# Altium integrated library altera-stratix-iv.IntLib: 38 symbols (part 6 of 21)
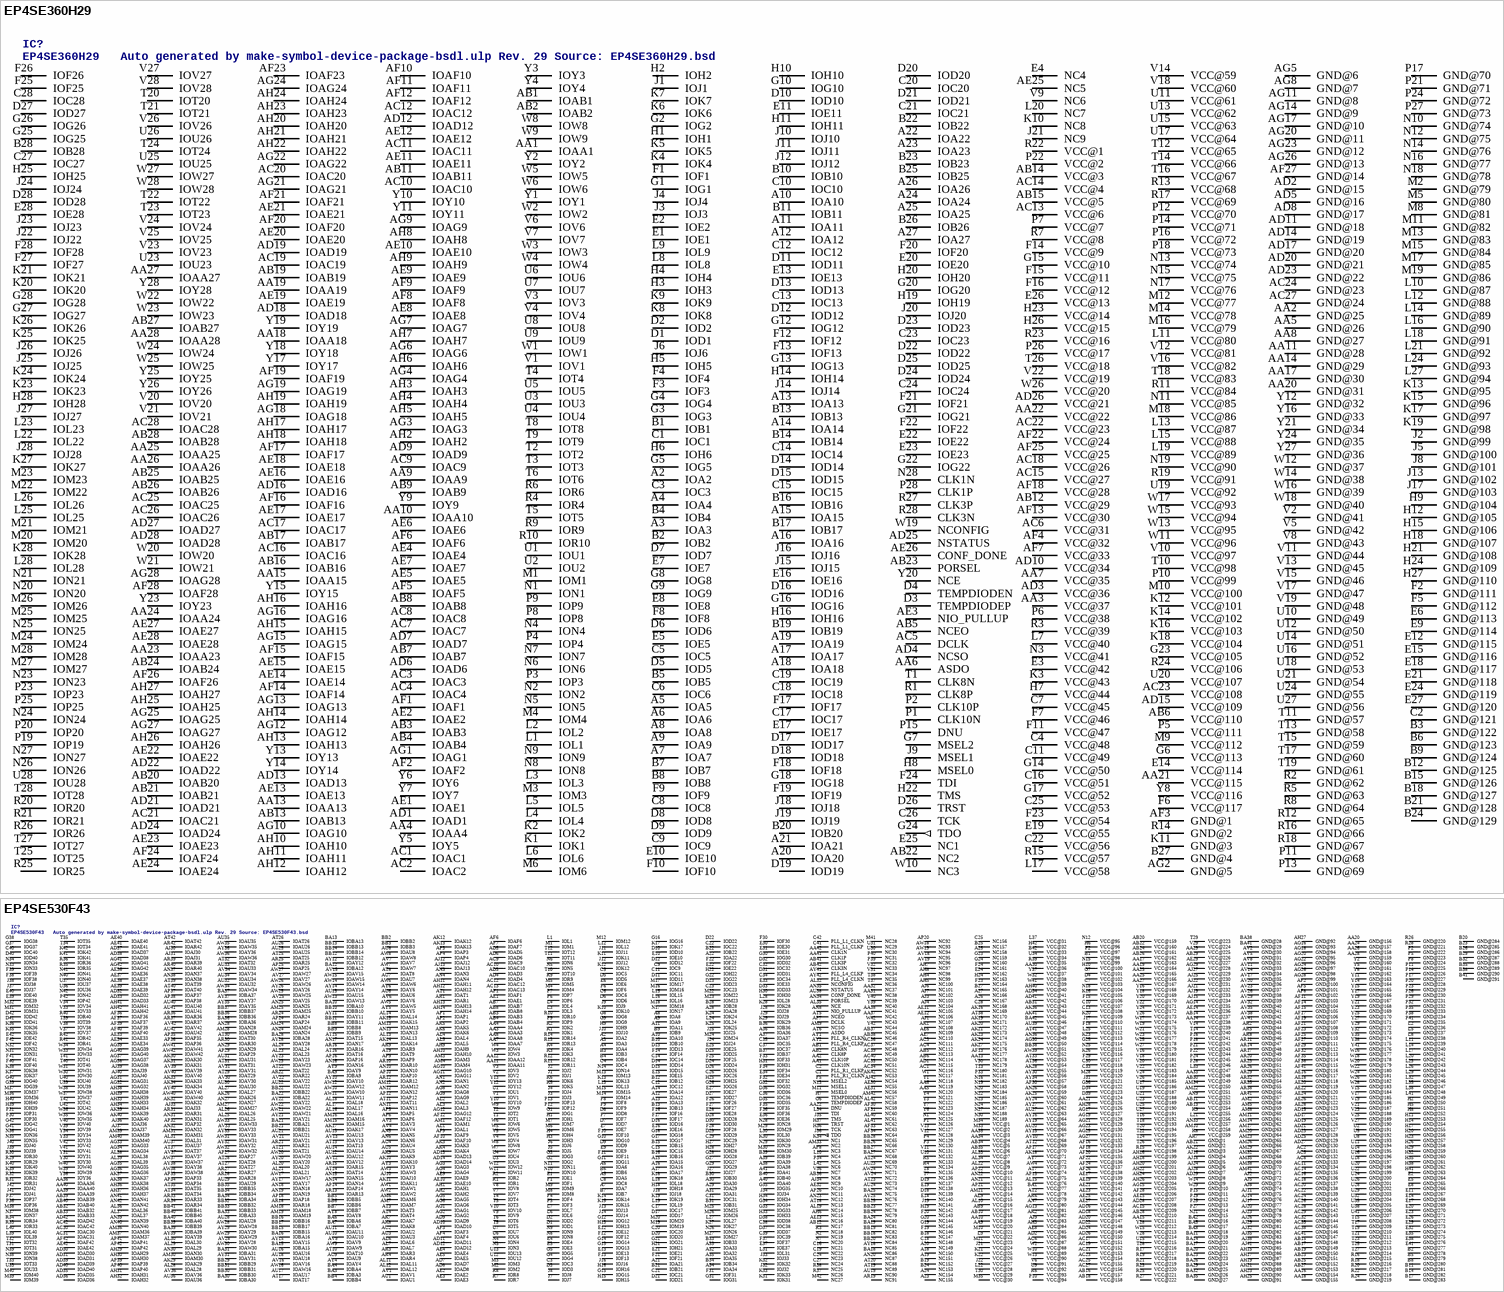
[diagram p21: symbols EP4SE360H29 to EP4SE530F43]

## EP4SE530F43
designator IC?, comment EP4SE530F43   Auto generated by make-symbol-device-package-bsdl.ulp Rev. 29 Source: EP4SE530F43.bsd
MPN: EP4SE530F43C2; OC_FARNELL: unknown; OC_NEWARK: 52R1701
footprint FBGA1760
pins: A2 IOA2, A3 IOA3, A4 IOA4, A5 IOA5, A6 IOA6, A7 IOA7, A8 IOA8, A9 IOA9, A10 IOA10, A11 IOA11, A12 IOA12, A13 IOA13, A14 IOA14, A15 IOA15, A16 IOA16, A17 IOA17, A18 NC150, A19 NC151, A20 NC149, A21 IOA21, A22 IOA22, A23 NC155, A24 NC154, A25 NC158, A26 NC167, A27 NC166, A28 IOA28, A29 IOA29, A30 IOA30, A31 IOA31, A32 IOA32, A33 IOA33, A34 IOA34, A35 IOA35, A36 IOA36, A37 IOA37, A38 IOA38, A39 IOA39, A40 IOA40, A41 IOA41, AA1 CLK10N, AA2 CLK10P, AA3 IOAA3, AA4 IOAA4, AA5 NC120, AA6 NC119, AA7 IOAA7, AA8 IOAA8, AA9 VCC@20 (power), AA10 VCC@19 (power), AA11 IOAA11, AA12 IOAA12, AA13 NC178, AA14 VCC@238 (power), AA15 VCC@211 (power), AA16 GND@154 (power), AA17 VCC@163 (power), AA18 GND@155 (power), AA19 VCC@164 (power), AA20 GND@156 (power), AA21 VCC@125 (power), AA22 DNU, AA23 VCC@165 (power), AA24 GND@157 (power), AA25 VCC@166 (power), AA26 GND@158 (power), AA27 VCC@167 (power), AA28 GND@159 (power), AA29 VCC@225 (power), AA30 VCC@36 (power), AA31 NC38, AA32 NC37, AA33 VCC@248 (power), AA34 VCC@4 (power), AA35 VCC@3 (power), AA36 IOAA36, AA37 NC42, AA38 NC41, AA39 IOAA39, AA40 IOAA40, AA41 CLK1P, AA42 CLK1N, AB1 CLK8N, AB2 CLK8P, AB3 IOAB3, AB4 IOAB4, AB5 NC113, AB6 NC114, AB7 IOAB7, AB8 IOAB8, AB9 VCC@17 (power), AB10 VCC@18 (power), AB11 VCC@253 (power), AB12 NC17, AB13 VCC@254 (power), AB14 VCC@237 (power), AB15 GND@148 (power), AB16 VCC@157 (power), AB17 GND@149 (power), AB18 VCC@158 (power), AB19 GND@150 (power), AB20 VCC@159 (power), AB21 GND@2 (power), AB22 VCC@160 (power), AB23 GND@151 (power), AB24 VCC@161 (power), AB25 GND@152 (power), AB26 VCC@162 (power), AB27 GND@153 (power), AB28 VCC@210 (power), AB29 VCC@226 (power), AB30 VCC@249 (power), AB31 VCC@43 (power), AB32 IOAB32, AB33 IOAB33, AB34 VCC@5 (power), AB35 VCC@6 (power), AB36 NC8, AB37 NC45, AB38 NC46, AB39 IOAB39, AB40 IOAB40, AB41 CLK3P, AB42 CLK3N, AC1 NC116, AC2 GND@131 (power), AC3 NC111, AC4 NC112, AC5 GND@132 (power), AC6 VCC@87 (power), AC8 GND@133 (power), AC9 IOAC9, AC10 IOAC10, AC11 GND@134 (power), AC12 IOAC12, AC13 IOAC13, AC14 GND@135 (power), AC15 VCC@209 (power), AC16 GND@136 (power), AC17 VCC@151 (power), AC18 GND@137 (power), AC19 VCC@152 (power), AC20 GND@138 (power), AC21 VCC@153 (power), AC22 GND@139 (power), AC23 VCC@154 (power), AC24 GND@140 (power), AC25 VCC@155 (power), AC26 GND@141 (power), AC27 VCC@156 (power), AC28 GND@142 (power), AC29 GND@143 (power), AC30 IOAC30, AC31 IOAC31, AC32 GND@144 (power), AC33 NC51, AC34 NC52, AC35 GND@145 (power), AC36 NC47, AC37 NC48, AC38 GND@146 (power), AC39 NC49, AC40 NC50, AC41 GND@147 (power), AC42 IOAC42, AD1 NC115, AD2 VCC@86 (power), AD3 IOAD3, AD4 IOAD4, AD5 IOAD5, AD6 IOAD6, AD7 IOAD7, AD8 IOAD8, AD9 IOAD9, AD10 IOAD10, AD11 IOAD11, AD12 IOAD12, AD13 IOAD13, AD14 IOAD14, AD15 GND@124 (power), AD16 VCC@145 (power), AD17 GND@125 (power), AD18 VCC@146 (power), AD19 GND@126 (power), AD20 VCC@147 (power), AD21 GND@127 (power), AD22 VCC@148 (power), AD23 GND@128 (power), AD24 VCC@149 (power), AD25 GND@129 (power), AD26 VCC@150 (power), AD27 GND@130 (power), AD28 VCC@208 (power), AD29 GND@8 (power), AD30 IOAD30, AD31 IOAD31, AD32 IOAD32, AD33 IOAD33, AD34 VCC@41 (power), AD35 IOAD35, AD36 IOAD36, AD37 IOAD37, AD38 IOAD38, AD39 IOAD39, AD40 IOAD40, AD41 VCC@42 (power), AD42 IOAD42, AE1 IOAE1, AE2 IOAE2, AE3 IOAE3, AE4 IOAE4, AE5 IOAE5, AE6 NC109, AE7 NC110, AE8 VCC@85 (power), AE9 IOAE9, AE10 IOAE10, AE11 NC105, AE12 NC106, AE13 NC16, AE14 VCC@236 (power), AE15 VCC@207 (power), AE16 GND@117 (power), AE17 VCC@139 (power), AE18 GND@118 (power), AE19 VCC@140 (power), AE20 GND@119 (power), AE21 VCC@141 (power), AE22 GND@120 (power), AE23 VCC@142 (power), AE24 GND@121 (power), AE25 VCC@143 (power), AE26 GND@122 (power), AE27 VCC@144 (power), AE28 GND@123 (power), AE29 VCC@227 (power), AE30 NC55, AE31 NC56, AE32 NC10, AE33 IOAE33, AE34 IOAE34, AE36 IOAE36, AE37 IOAE37, AE38 IOAE38, AE39 IOAE39, AE40 IOAE40, AE41 IOAE41, AE42 IOAE42, AF1 IOAF1, AF2 GND@100 (power), AF3 IOAF3, AF4 IOAF4, AF5 GND@101 (power), AF6 IOAF6, AF7 IOAF7, AF8 GND@102 (power), AF9 IOAF9, AF10 IOAF10, AF11 GND@103 (power), AF12 IOAF12, AF13 NC177, AF14 GND@104 (power), AF15 GND@105 (power), AF16 VCC@133 (power), AF17 GND@106 (power), AF18 VCC@134 (power), AF19 GND@107 (power), AF20 VCC@135 (power), AF21 GND@108 (power), AF22 VCC@136 (power), AF23 GND@109 (power), AF24 VCC@137 (power), AF25 GND@110 (power), AF26 VCC@138 (power), AF27 GND@111 (power), AF28 VCC@206 (power), AF29 GND@112 (power), AF30 NC59, AF31 NC60, AF32 GND@113 (power), AF33 NC63, AF34 NC64, AF35 GND@114 (power), AF36 IOAF36, AF37 IOAF37, AF38 GND@115 (power), AF39 IOAF39, AF40 IOAF40, AF41 GND@116 (power), AF42 IOAF42, AG1 IOAG1, AG2 IOAG2, AG3 IOAG3, AG4 IOAG4, AG5 IOAG5, AG6 IOAG6, AG8 IOAG8, AG9 IOAG9, AG10 IOAG10, AG11 IOAG11, AG12 IOAG12, AG13 VCC@81 (power), AG14 VCC@235 (power), AG15 VCC@205 (power), AG16 GND@93 (power), AG17 VCC@127 (power), AG18 GND@94 (power), AG19 VCC@128 (power), AG20 GND@95 (power), AG21 VCC@129 (power), AG22 GND@96 (power), AG23 VCC@130 (power), AG24 GND@97 (power), AG25 VCC@131 (power), AG26 GND@98 (power), AG27 VCC@132 (power), AG28 GND@99 (power), AG29 VCC@228 (power), AG30 VCC@50 (power), AG31 IOAG31, AG32 IOAG32, AG33 IOAG33, AG34 IOAG34, AG35 IOAG35, AG36 IOAG36, AG37 IOAG37, AG38 IOAG38, AG39 IOAG39, AG40 IOAG40, AG41 IOAG41, AG42 IOAG42, AH1 IOAH1, AH2 IOAH2, AH3 VCC@84 (power), AH4 NC99, AH5 NC100, AH6 NC15, AH7 NC97, AH8 NC98, AH9 IOAH9, AH10 IOAH10, AH11 IOAH11, AH12 IOAH12, AH13 IOAH13, AH14 IOAH14, AH15 GND@86 (power), AH16 VCC@199 (power), AH17 GND@87 (power), AH18 VCC@200 (power), AH19 GND@88 (power), AH20 VCC@201 (power), AH21 GND@89 (power), AH22 VCC@202 (power), AH23 GND@90 (power), AH24 VCC@203 (power), AH25 GND@91 (power), AH26 VCC@204 (power), AH27 GND@92 (power), AH28 VCC@126 (power), AH29 IOAH29, AH30 IOAH30, AH31 IOAH31, AH32 IOAH32, AH33 IOAH33, AH34 IOAH34, AH36 IOAH36, AH37 IOAH37, AH38 IOAH38, AH39 IOAH39, AH40 VCC@40 (power), AH41 IOAH41, AH42 IOAH42, AJ1 NC107, AJ2 GND@72 (power), AJ3 NC103, AJ4 NC104, AJ5 GND@73 (power), AJ6 NC101, AJ7 NC102, AJ8 GND@74 (power), AJ9 VCC@83 (power), AJ10 IOAJ10, AJ11 GND@75 (power), AJ12 IOAJ12, AJ13 IOAJ13, AJ14 GND@76 (power), AJ15 VCC@234 (power), AJ16 GND@4 (power), AJ17 GND@77 (power), AJ18 GND@5 (power), AJ19 VCC@233 (power), AJ20 GND@78 (power), AJ21 VCC@232 (power), AJ22 VCC@231 (power), AJ23 GND@79 (power), AJ24 GND@6 (power), AJ25 VCC@230 (power), AJ26 GND@80 (power), AJ27 VCC@229 (power), AJ28 GND@7 (power), AJ29 GND@81 (power), AJ30 IOAJ30, AJ31 IOAJ31, AJ32 GND@82 (power), AJ33 IOAJ33, AJ34 NC9, AJ35 GND@83 (power), AJ36 IOAJ36, AJ37 IOAJ37, AJ38 GND@84 (power), AJ39 IOAJ39, AJ40 IOAJ40, AJ41 GND@85 (power), AJ42 NC54, AK1 NC108, AK2 VCC@82 (power), AK3 IOAK3, AK4 IOAK4, AK5 IOAK5, AK6 IOAK6, AK7 IOAK7, AK8 IOAK8, AK9 IOAK9, AK10 IOAK10, AK11 IOAK11, AK12 IOAK12, AK13 IOAK13, AK14 IOAK14, AK15 IOAK15, AK16 NC169, AK17 IOAK17, AK18 VCC@71 (power), AK19 NC171, AK20 NC172, AK21 NC173, AK22 GND@3 (power), AK23 NC174, AK24 NC175, AK25 VCC@60 (power), AK26 IOAK26, AK27 NC176, AK28 VCC@55 (power), AK29 IOAK29, AK30 IOAK30, AK31 IOAK31, AK32 IOAK32, AK33 IOAK33, AK34 IOAK34, AK36 VCC@44 (power), AK37 IOAK37, AK38 IOAK38, AK39 IOAK39, AK40 IOAK40, AK41 VCC@45 (power), AK42 NC53, AL1 IOAL1, AL2 IOAL2, AL3 IOAL3, AL4 IOAL4, AL5 IOAL5, AL6 IOAL6, AL7 IOAL7, AL9 VCC@15 (power), AL10 VCC@16 (power), AL11 IOAL11, AL12 IOAL12, AL13 IOAL13, AL14 IOAL14, AL15 VCC@76 (power), AL16 IOAL16, AL17 IOAL17, AL18 IOAL18, AL19 NC14, AL20 IOAL20, AL21 IOAL21, AL22 VCC@9 (power), AL23 IOAL23, AL24 IOAL24, AL25 IOAL25, AL26 IOAL26, AL27 IOAL27, AL28 IOAL28, AL29 IOAL29, AL30 IOAL30, AL31 IOAL31, AL32 NCONFIG, AL33 VCC@7 (power), AL34 VCC@8 (power), AL35 NCE, AL36 IOAL36, AL37 IOAL37, AL38 IOAL38, AL39 IOAL39, AL40 NC61, AL41 NC62, AL42 NC58, AM1 IOAM1, AM2 GND@58 (power), AM3 IOAM3, AM4 IOAM4, AM5 GND@59 (power), AM6 IOAM6, AM7 IOAM7, AM8 GND@60 (power), AM9 NCSO, AM10 VCC@258 (power), AM11 GND@61 (power), AM12 IOAM12, AM13 IOAM13, AM14 GND@62 (power), AM15 IOAM15, AM16 IOAM16, AM17 GND@63 (power), AM18 IOAM18, AM19 IOAM19, AM20 GND@64 (power), AM21 VCC@14 (power), AM22 VCC@251 (power), AM23 GND@65 (power), AM24 IOAM24, AM25 IOAM25, AM26 GND@66 (power), AM27 IOAM27, AM28 IOAM28, AM29 GND@67 (power), AM30 IOAM30, AM31 IOAM31, AM32 GND@68 (power), AM33 NC2, AM34 VCC@250 (power), AM35 GND@69 (power), AM36 IOAM36, AM37 IOAM37, AM38 GND@70 (power), AM39 IOAM39, AM40 IOAM40, AM41 GND@71 (power), AM42 NC57, AN1 IOAN1, AN2 IOAN2, AN3 IOAN3, AN4 IOAN4, AN5 IOAN5, AN6 IOAN6, AN7 VCC@80 (power), AN8 NIO_PULLUP, AN9 VCC@252 (power), AN10 IOAN10, AN11 IOAN11, AN12 IOAN12, AN13 IOAN13, AN14 IOAN14, AN15 IOAN15, AN16 IOAN16, AN17 IOAN17, AN18 IOAN18, AN19 IOAN19, AN20 NC87, AN21 VCC@12 (power), AN22 VCC@11 (power), AN23 NC12, AN24 IOAN24, AN25 IOAN25, AN26 VCC@59 (power), AN27 IOAN27, AN28 IOAN28, AN29 IOAN29, AN30 IOAN30, AN31 IOAN31, AN32 IOAN32, AN33 VCC@257 (power), AN34 PORSEL, AN35 NSTATUS, AN36 VCC@49 (power), AN37 IOAN37, AN38 IOAN38, AN39 IOAN39, AN40 IOAN40, AN41 IOAN41, AN42 IOAN42, AP1 IOAP1, AP2 IOAP2, AP3 IOAP3, AP4 IOAP4, AP5 IOAP5, AP6 IOAP6, AP7 DCLK, AP8 NC3, AP9 IOAP9, AP10 IOAP10, AP12 IOAP12, AP13 VCC@75 (power), AP14 IOAP14, AP16 IOAP16, AP17 VCC@70 (power), AP18 IOAP18, AP20 NC92, AP21 VCC@13 (power), AP22 VCC@10 (power), AP24 IOAP24, AP25 IOAP25, AP26 NC11, AP27 IOAP27, AP29 IOAP29, AP30 VCC@58 (power), AP32 IOAP32, AP33 IOAP33, AP34 IOAP34, AP35 IOAP35, AP36 IOAP36, AP37 IOAP37, AP38 IOAP38, AP39 IOAP39, AP40 IOAP40, AP41 IOAP41, AP42 IOAP42, AR1 IOAR1, AR2 GND@44 (power), AR3 IOAR3, AR4 IOAR4, AR5 GND@45 (power), AR6 VCC@79 (power), AR7 GND@1 (power), AR8 GND@46 (power), AR9 IOAR9, AR10 IOAR10, AR11 GND@47 (power), AR12 IOAR12, AR13 IOAR13, AR14 GND@48 (power), AR15 IOAR15, AR16 IOAR16, AR17 GND@49 (power), AR18 IOAR18, AR19 NC91, AR20 GND@50 (power), AR21 IOAR21, AR22 IOAR22, AR23 GND@51 (power), AR24 IOAR24, AR25 IOAR25, AR26 GND@52 (power), AR27 IOAR27, AR28 IOAR28, AR29 GND@53 (power), AR30 IOAR30, AR31 IOAR31, AR32 GND@54 (power), AR33 IOAR33, AR34 IOAR34, AR35 GND@55 (power), AR36 IOAR36, AR37 IOAR37, AR38 GND@56 (power), AR39 IOAR39, AR40 IOAR40, AR41 GND@57 (power), AR42 IOAR42, AT1 IOAT1, AT2 VCC@78 (power), AT3 IOAT3, AT4 IOAT4, AT5 NCEO, AT6 ASDO, AT7 VCC@74 (power), AT8 IOAT8, AT9 IOAT9, AT10 IOAT10, AT11 IOAT11, AT12 VCC@69 (power), AT13 IOAT13, AT14 IOAT14, AT15 IOAT15, AT16 IOAT16, AT17 IOAT17, AT18 NC13, AT19 NC89, AT20 NC88, AT21 IOAT21, AT22 IOAT22, AT23 NC73, AT24 NC69, AT25 IOAT25, AT26 IOAT26, AT27 IOAT27, AT28 IOAT28, AT29 IOAT29, AT30 IOAT30, AT31 IOAT31, AT32 IOAT32, AT33 VCC@53 (power), AT34 IOAT34, AT35 IOAT35, AT36 VCC@54 (power), AT37 IOAT37, AT38 NC170, AT39 IOAT39, AT40 IOAT40, AT41 VCC@48 (power), AT42 IOAT42, AU1 IOAU1, AU2 IOAU2, AU3 IOAU3, AU4 IOAU4, AU5 IOAU5, AU6 IOAU6, AU7 IOAU7, AU8 IOAU8, AU9 IOAU9, AU10 IOAU10, AU11 IOAU11, AU12 IOAU12, AU13 IOAU13, AU14 IOAU14, AU15 IOAU15, AU16 IOAU16, AU17 IOAU17, AU18 IOAU18, AU19 NC90, AU20 VCC@66 (power), AU21 IOAU21, AU22 IOAU22, AU23 NC70, AU24 NC74, AU25 IOAU25, AU26 IOAU26, AU27 VCC@63 (power), AU28 IOAU28, AU29 IOAU29, AU30 IOAU30, AU31 IOAU31, AU32 IOAU32, AU33 IOAU33, AU34 IOAU34, AU35 IOAU35, AU36 IOAU36, AU37 IOAU37, AU38 CONF_DONE, AU39 VCC@47 (power), AU40 IOAU40, AU41 IOAU41, AU42 IOAU42, AV1 IOAV1, AV2 GND@30 (power), AV3 IOAV3, AV4 IOAV4, AV5 GND@31 (power), AV6 IOAV6, AV7 IOAV7, AV8 GND@32 (power), AV9 IOAV9, AV10 VCC@68 (power), AV11 GND@33 (power), AV12 IOAV12, AV13 IOAV13, AV14 GND@34 (power), AV15 IOAV15, AV16 IOAV16, AV17 GND@35 (power), AV18 NC95, AV19 NC96, AV20 GND@36 (power), AV21 IOAV21, AV22 IOAV22, AV23 GND@37 (power), AV24 NC72, AV25 IOAV25, AV26 GND@38 (power), AV27 IOAV27, AV28 IOAV28, AV29 GND@39 (power), AV30 IOAV30, AV31 IOAV31, AV32 GND@40 (power), AV33 IOAV33, AV34 IOAV34, AV35 GND@41 (power), AV36 IOAV36, AV37 IOAV37, AV38 GND@42 (power), AV39 IOAV39, AV40 IOAV40, AV41 GND@43 (power), AV42 IOAV42, AW1 IOAW1, AW2 IOAW2, AW3 IOAW3, AW4 VCC@73 (power), AW5 IOAW5, AW6 IOAW6, AW7 IOAW7, AW8 IOAW8, AW9 IOAW9, AW10 IOAW10, AW11 IOAW11, AW12 IOAW12, AW13 IOAW13, AW14 IOAW14, AW15 IOAW15, AW16 IOAW16, AW17 IOAW17, AW18 NC93, AW19 NC94, AW20 IOAW20, AW21 IOAW21, AW22 IOAW22, AW23 IOAW23, AW24 NC71, AW25 IOAW25, AW26 IOAW26, AW27 IOAW27, AW28 IOAW28, AW29 IOAW29, AW30 IOAW30, AW31 IOAW31, AW32 IOAW32, AW33 IOAW33, AW34 IOAW34, AW35 IOAW35, AW36 IOAW36, AW37 IOAW37, AW38 IOAW38, AW39 VCC@52 (power), AW40 IOAW40, AW41 IOAW41, AW42 IOAW42, AY1 PLL_R4_CLKN, AY2 PLL_R4_CLKP, AY3 IOAY3, AY4 IOAY4, AY5 IOAY5, AY6 IOAY6, AY7 VCC@72 (power), AY8 IOAY8, AY9 IOAY9, AY10 IOAY10, AY11 IOAY11, AY12 IOAY12, AY13 VCC@67 (power), AY14 IOAY14, AY15 IOAY15, AY16 VCC@64 (power), AY17 IOAY17, AY18 NC85, AY19 VCC@65 (power), AY20 IOAY20, AY21 IOAY21, AY22 IOAY22, AY23 IOAY23, AY24 VCC@61 (power), AY25 NC76, AY26 IOAY26, AY27 VCC@62 (power), AY28 IOAY28, AY29 IOAY29, AY30 VCC@56 (power), AY31 IOAY31, AY32 IOAY32, AY33 IOAY33, AY34 VCC@57 (power), AY35 IOAY35, AY36 IOAY36, AY37 IOAY37, AY38 IOAY38, AY39 IOAY39, AY40 IOAY40, AY41 PLL_L4_CLKP, AY42 PLL_L4_CLKN, B1 VCC@98 (power), B2 GND@278 (power), B3 IOB3, B4 IOB4, B5 GND@279 (power), B6 IOB6, B7 IOB7, B8 GND@280 (power), B9 IOB9, B10 IOB10, B11 GND@281 (power), B12 IOB12, B13 IOB13, B14 GND@282 (power), B15 IOB15, B16 IOB16, B17 GND@283 (power), B18 NC147, B19 NC152, B20 GND@284 (power), B21 IOB21, B22 IOB22, B23 GND@285 (power), B24 NC153, B25 NC157, B26 GND@286 (power), B27 NC165, B28 IOB28, B29 GND@287 (power), B30 IOB30, B31 IOB31, B32 GND@288 (power), B33 IOB33, B34 IOB34, B35 GND@289 (power), B36 IOB36, B37 IOB37, B38 GND@290 (power), B39 IOB39, B40 IOB40, B41 GND@291 (power), B42 VCC@33 (power), BA1 VCC@77 (power), BA2 GND@16 (power), BA3 IOBA3, BA4 IOBA4, BA5 GND@17 (power), BA6 IOBA6, BA7 IOBA7, BA8 GND@18 (power), BA9 IOBA9, BA10 IOBA10, BA11 GND@19 (power), BA12 IOBA12, BA13 IOBA13, BA14 GND@20 (power), BA15 IOBA15, BA16 IOBA16, BA17 GND@21 (power), BA18 NC86, BA19 NC81, BA20 GND@22 (power), BA21 IOBA21, BA22 IOBA22, BA23 GND@23 (power), BA24 NC80, BA25 NC75, BA26 GND@24 (power), BA27 NC68, BA28 IOBA28, BA29 GND@25 (power), BA30 IOBA30, BA31 IOBA31, BA32 GND@26 (power), BA33 IOBA33, BA34 IOBA34, BA35 GND@27 (power), BA36 IOBA36, BA37 IOBA37, BA38 GND@28 (power), BA39 IOBA39, BA40 IOBA40, BA41 GND@29 (power), BA42 VCC@46 (power), BB2 IOBB2, BB3 IOBB3, BB4 IOBB4, BB5 IOBB5, BB6 IOBB6, BB7 IOBB7, BB8 IOBB8, BB9 IOBB9, BB10 IOBB10, BB11 IOBB11, BB12 IOBB12, BB13 IOBB13, BB14 IOBB14, BB15 IOBB15, BB16 IOBB16, BB17 IOBB17, BB18 NC83, BB19 NC82, BB20 NC84, BB21 IOBB21, BB22 IOBB22, BB23 NC78, BB24 NC79, BB25 NC77, BB26 NC66, BB27 NC67, BB28 NC65, BB29 IOBB29, BB30 IOBB30, BB31 IOBB31, BB32 IOBB32, BB33 IOBB33, BB34 IOBB34, BB35 IOBB35, BB36 IOBB36, BB37 IOBB37, BB38 VCC@51 (power), BB39 IOBB39, BB40 IOBB40, BB41 IOBB41, C1 PLL_R1_CLKN, C2 PLL_R1_CLKP, C3 IOC3, C4 IOC4, C5 IOC5, C6 IOC6, C7 VCC@103 (power), C8 IOC8, C9 IOC9, C10 VCC@107 (power), C11 IOC11, C12 IOC12, C13 VCC@108 (power), C14 IOC14, C15 IOC15, C16 NC21, C17 IOC17, C18 NC148, C19 NC22, C20 IOC20, C21 IOC21, C22 IOC22, C23 IOC23, C24 NC23, C25 NC156, C26 IOC26, C27 NC24, C28 NC168, C29 IOC29, C30 VCC@118 (power), C31 IOC31, C32 IOC32, C33 VCC@119 (power), C34 IOC34, C35 IOC35, C36 IOC36, C37 IOC37, C38 IOC38, C39 IOC39, C40 IOC40, C41 PLL_L1_CLKP, C42 PLL_L1_CLKN, D1 IOD1, D2 IOD2, D3 IOD3, D4 VCC@102 (power), D5 IOD5, D6 IOD6, D7 IOD7, D8 IOD8, D9 IOD9, D10 IOD10, D11 IOD11, D12 IOD12, D13 IOD13, D14 IOD14, D15 IOD15, D16 IOD16, D17 IOD17, D18 NC139, D19 NC137, D20 IOD20, D21 IOD21, D22 IOD22, D23 IOD23, D24 IOD24, D25 IOD25, D26 IOD26, D27 IOD27, D28 IOD28, D29 IOD29, D30 IOD30, D31 IOD31, D32 IOD32, D33 IOD33, D34 VCC@123 (power), D35 IOD35, D36 IOD36, D37 IOD37, D38 IOD38, D39 VCC@124 (power), D40 IOD40, D41 IOD41, D42 IOD42, E1 IOE1, E2 GND@264 (power), E3 IOE3, E4 IOE4, E5 GND@265 (power), E6 IOE6, E7 IOE7, E8 GND@266 (power), E9 IOE9, E10 IOE10, E11 GND@267 (power), E12 IOE12, E13 IOE13, E14 GND@268 (power), E15 IOE15, E16 IOE16, E17 GND@269 (power), E18 NC140, E19 NC138, E20 GND@270 (power), E21 IOE21, E22 IOE22, E23 GND@271 (power), E24 NC162, E25 IOE25, E26 GND@272 (power), E27 IOE27, E28 IOE28, E29 GND@273 (power), E30 IOE30, E31 IOE31, E32 GND@274 (power), E33 IOE33, E34 IOE34, E35 GND@275 (power), E36 IOE36, E37 IOE37, E38 GND@276 (power), E39 IOE39, E40 IOE40, E41 GND@277 (power), E42 IOE42, F1 IOF1, F2 VCC@97 (power), F3 IOF3, F4 IOF4, F5 MSEL2, F6 IOF6, F7 IOF7, F8 IOF8, F9 IOF9, F10 IOF10, F11 IOF11, F12 IOF12, F13 IOF13, F14 IOF14, F15 VCC@106 (power), F16 IOF16, F17 IOF17, F18 VCC@111 (power), F19 NC146, F20 NC143, F21 IOF21, F22 IOF22, F23 NC164, F24 NC161, F25 IOF25, F26 IOF26, F27 IOF27, F28 IOF28, F29 VCC@117 (power), F30 IOF30, F31 IOF31, F32 IOF32, F33 IOF33, F34 IOF34, F35 IOF35, F36 IOF36, F37 IOF37, F38 IOF38, F39 IOF39, F40 IOF40, F41 IOF41, F42 IOF42, G1 IOG1, G2 IOG2, G3 IOG3, G4 IOG4, G5 IOG5, G6 TEMPDIODEP, G7 VCC@101 (power), G8 IOG8, G9 IOG9, G10 IOG10, G11 IOG11, G12 IOG12, G13 IOG13, G14 IOG14, G15 IOG15, G16 IOG16, G17 IOG17, G18 IOG18, G19 NC145, G20 NC144, G21 IOG21, G22 IOG22, G23 NC159, G24 NC160, G25 VCC@114 (power), G26 IOG26, G27 IOG27, G28 IOG28, G29 IOG29, G30 IOG30, G31 IOG31, G32 IOG32, G33 IOG33, G34 IOG34, G35 IOG35, G36 VCC@122 (power), G37 IOG37, G38 IOG38, G39 IOG39, G40 IOG40, G41 IOG41, G42 IOG42, H1 IOH1, H2 GND@250 (power), H3 IOH3, H4 IOH4, H5 GND@251 (power), H6 VCC@96 (power), H7 TEMPDIODEN, H8 GND@252 (power), H9 IOH9, H10 VCC@100 (power), H11 GND@253 (power), H13 IOH13, H14 GND@254 (power), H15 IOH15, H16 IOH16, H17 GND@255 (power), H18 IOH18, H19 NC142, H20 GND@256 (power), H21 IOH21, H22 IOH22, H23 GND@257 (power), H24 NC163, H25 IOH25, H26 GND@258 (power), H27 IOH27, H28 IOH28, H29 GND@259 (power), H30 IOH30, H31 IOH31, H32 GND@260 (power), H33 IOH33, H34 IOH34, H35 GND@261 (power), H36 TCK, H37 TRST, H38 GND@262 (power), H39 IOH39, H40 IOH40, H41 GND@263 (power), H42 VCC@32 (power), J1 IOJ1, J2 IOJ2, J3 IOJ3, J4 IOJ4, J5 IOJ5, J6 IOJ6, J7 IOJ7, J8 IOJ8, J9 IOJ9, J10 IOJ10, J11 IOJ11, J12 IOJ12, J13 IOJ13, J14 IOJ14, J16 IOJ16, J17 VCC@110 (power), J18 IOJ18, J19 NC141, J21 VCC@24 (power), J22 VCC@27 (power), J24 IOJ24, J25 IOJ25, J27 IOJ27, J28 IOJ28, J29 IOJ29, J31 VCC@121 (power), J32 IOJ32, J33 IOJ33, J34 IOJ34, J35 TMS, J36 TDO (out), J37 IOJ37, J38 IOJ38, J39 IOJ39, J40 IOJ40, J41 IOJ41, J42 IOJ42, K1 IOK1, K2 IOK2, K3 IOK3, K4 IOK4, K5 IOK5, K6 IOK6, K8 VCC@259 (power), K9 VCC@255 (power), K10 IOK10, K11 IOK11, K12 IOK12, K13 IOK13, K14 IOK14, K15 IOK15, K16 VCC@105 (power), K17 IOK17, K18 IOK18, K19 IOK19, K20 VCC@109 (power), K21 VCC@25 (power), K22 VCC@26 (power), K23 VCC@113 (power), K24 IOK24, K25 IOK25, K26 VCC@116 (power), K27 IOK27, K28 IOK28, K29 IOK29, K30 IOK30, K31 IOK31, K32 IOK32, K33 IOK33, K34 NC1, K35 IOK35, K36 IOK36, K37 IOK37, K38 IOK38, K39 IOK39, K40 IOK40, K41 IOK41, K42 IOK42, L1 IOL1, L2 GND@236 (power), L3 IOL3, L4 IOL4, L5 GND@237 (power), L6 IOL6, L7 IOL7, L8 GND@238 (power), L9 VCC@22 (power), L10 NC4, L11 GND@239 (power), L12 IOL12, L13 IOL13, L14 GND@240 (power), L15 IOL15, L16 IOL16, L17 GND@241 (power), L18 IOL18, L19 IOL19, L20 GND@242 (power), L21 VCC@256 (power), L22 VCC@28 (power), L23 GND@243 (power), L24 IOL24, L25 VCC@112 (power), L26 GND@244 (power), L27 IOL27, L28 IOL28, L29 GND@245 (power), L30 IOL30, L31 IOL31, L32 GND@246 (power), L33 VCC@247 (power), L34 TDI, L35 GND@247 (power), L37 VCC@31 (power), L38 GND@248 (power), L39 IOL39, L40 IOL40, L41 GND@249 (power), L42 NC6, M1 IOM1, M2 IOM2, M3 IOM3, M4 IOM4, M5 IOM5, M6 IOM6, M7 IOM7, M8 IOM8, M9 IOM9, M10 VCC@21 (power), M11 MSEL0, M12 IOM12, M13 IOM13, M14 IOM14, M15 IOM15, M16 IOM16, M17 IOM17, M18 IOM18, M19 IOM19, M20 IOM20, M21 VCC@23 (power), M22 IOM22, M23 IOM23, M24 IOM24, M25 IOM25, M26 IOM26, M27 IOM27, M28 VCC@120 (power), M29 IOM29, M30 IOM30, M31 IOM31, M32 IOM32, M33 VCC@2 (power), M34 VCC@1 (power), M35 VCC@30 (power), M36 IOM36, M37 IOM37, M38 IOM38, M39 IOM39, M40 IOM40, M41 NC28, M42 NC27, N1 NC125, N2 NC19, N3 ION3, N4 ION4, N5 ION5, N6 ION6, N7 NC20, N8 ION8, N9 ION9, N10 ION10, N11 ION11, N12 VCC@95 (power), N13 MSEL1, N14 ION14, N15 VCC@99 (power), N16 NC182, N17 ION17, N18 VCC@104 (power), N19 NC183, N20 NC184, N21 GND@15 (power), N22 NC185, N23 NC186, N24 NC187, N25 VCC@115 (power), N26 ION26, N27 NC188, N28 ION28, N29 ION29, N30 NC189, N31 ION31, N32 ION32, N33 ION33, N34 ION34, N35 ION35, N36 ION36, N37 ION37, N38 ION38, N39 ION39, N40 ION40, N41 ION41, N42 ION42, P1 NC126, P2 GND@222 (power), P3 NC130, P4 NC129, P5 GND@223 (power), P6 IOP6, P7 IOP7, P8 GND@224 (power), P9 IOP9, P10 VCC@94 (power), P11 GND@225 (power), P12 IOP12, P13 IOP13, P14 GND@226 (power), P15 GND@11 (power), P16 VCC@241 (power), P17 GND@227 (power), P18 VCC@242 (power), P19 GND@12 (power), P20 GND@228 (power), P21 VCC@243 (power), P22 VCC@244 (power), P23 GND@229 (power), P24 VCC@245 (power), P25 GND@13 (power), P26 GND@230 (power), P27 GND@14 (power), P28 VCC@246 (power), P29 GND@231 (power), P30 IOP30, P31 IOP31, P32 GND@232 (power), P33 NC181, P34 NC5, P35 GND@233 (power), P36 IOP36, P37 IOP37, P38 GND@234 (power), P39 NC32, P40 NC31, P41 GND@235 (power), P42 IOP42, R1 IOR1, R2 IOR2, R3 NC18, R4 NC134, R5 NC133, R6 VCC@93 (power), R7 IOR7, R8 IOR8, R9 IOR9, R10 IOR10, R11 IOR11, R12 IOR12, R13 IOR13, R14 IOR14, R15 VCC@198 (power), R16 GND@215 (power), R17 VCC@217 (power), R18 GND@216 (power), R19 VCC@218 (power), R20 GND@217 (power), R21 VCC@219 (power), R22 GND@218 (power), R23 VCC@220 (power), R24 GND@219 (power), R25 VCC@221 (power), R26 GND@220 (power), R27 VCC@222 (power), R28 GND@221 (power), R29 IOR29, R30 IOR30, R31 IOR31, R32 IOR32, R33 IOR33, R34 IOR34, R35 IOR35, R36 IOR36, R37 NC26, R38 NC25, R39 VCC@35 (power), R40 IOR40, R41 IOR41, R42 IOR42, T1 IOT1, T2 IOT2, T3 IOT3, T4 IOT4, T5 IOT5, T6 IOT6, T7 NC136, T8 NC135, T10 IOT10, T11 IOT11, T12 IOT12, T13 NC180, T14 VCC@240 (power), T15 GND@208 (power), T16 VCC@192 (power), T17 GND@209 (power), T18 VCC@193 (power), T19 GND@210 (power), T20 VCC@194 (power), T21 GND@211 (power), T22 VCC@195 (power), T23 GND@212 (power), T24 VCC@196 (power), T25 GND@213 (power), T26 VCC@197 (power), T27 GND@214 (power), T28 VCC@216 (power), T29 VCC@223 (power), T30 VCC@29 (power), T31 IOT31, T32 IOT32, T33 IOT33, T34 IOT34, T35 IOT35, T37 NC36, T38 NC35, T39 IOT39, T40 IOT40, T41 IOT41, T42 IOT42, U1 IOU1, U2 GND@191 (power), U3 IOU3, U4 IOU4, U5 GND@192 (power), U6 IOU6, U7 IOU7, U8 GND@193 (power), U9 VCC@92 (power), U10 NC132, U11 GND@194 (power), U12 IOU12, U13 IOU13, U14 GND@195 (power), U15 VCC@215 (power), U16 GND@196 (power), U17 VCC@186 (power), U18 GND@197 (power), U19 VCC@187 (power), U20 GND@198 (power), U21 VCC@188 (power), U22 GND@199 (power), U23 VCC@189 (power), U24 GND@200 (power), U25 VCC@190 (power), U26 GND@201 (power), U27 VCC@191 (power), U28 GND@202 (power), U29 GND@203 (power), U30 NC30, U31 NC29, U32 GND@204 (power), U33 IOU33, U34 VCC@34 (power), U35 GND@205 (power), U36 IOU36, U37 IOU37, U38 GND@206 (power), U39 IOU39, U40 IOU40, U41 GND@207 (power), U42 IOU42, V1 IOV1, V2 IOV2, V3 IOV3, V4 IOV4, V5 IOV5, V6 VCC@91 (power), V7 IOV7, V8 IOV8, V9 IOV9, V10 IOV10, V11 NC131, V12 NC128, V13 NC127, V14 VCC@239 (power), V15 GND@184 (power), V16 VCC@180 (power), V17 GND@185 (power), V18 VCC@181 (power), V19 GND@186 (power), V20 VCC@182 (power), V21 GND@187 (power), V22 VCC@183 (power), V23 GND@188 (power), V24 VCC@184 (power), V25 GND@189 (power), V26 VCC@185 (power), V27 GND@190 (power), V28 VCC@214 (power), V29 VCC@224 (power), V30 NC179, V31 NC34, V32 NC33, V33 IOV33, V34 IOV34, V36 NC7, V37 IOV37, V38 IOV38, V39 IOV39, V40 IOV40, V41 IOV41, V42 IOV42, W1 NC117, W2 VCC@88 (power), W3 IOW3, W4 IOW4, W5 IOW5, W6 IOW6, W7 IOW7, W8 IOW8, W9 IOW9, W10 VCC@89 (power), W11 IOW11, W12 IOW12, W13 VCC@90 (power), W14 GND@9 (power), W15 VCC@213 (power), W16 GND@177 (power), W17 VCC@174 (power), W18 GND@178 (power), W19 VCC@175 (power), W20 GND@179 (power), W21 VCC@176 (power), W22 GND@180 (power), W23 VCC@177 (power), W24 GND@181 (power), W25 VCC@178 (power), W26 GND@182 (power), W27 VCC@179 (power), W28 GND@183 (power), W29 GND@10 (power), W30 IOW30, W31 IOW31, W32 VCC@38 (power), W33 IOW33, W34 IOW34, W35 IOW35, W36 IOW36, W37 IOW37, W38 IOW38, W39 IOW39, W40 IOW40, W41 VCC@39 (power), W42 NC43, Y1 NC118, Y2 GND@160 (power), Y3 NC122, Y4 NC121, Y5 GND@161 (power), Y6 NC124, Y7 NC123, Y8 GND@162 (power), Y10 IOY10, Y11 GND@163 (power), Y12 IOY12, Y13 IOY13, Y14 GND@164 (power), Y15 GND@165 (power), Y16 VCC@168 (power), Y17 GND@166 (power), Y18 VCC@169 (power), Y19 GND@167 (power), Y20 VCC@170 (power), Y21 GND@168 (power), Y22 VCC@171 (power), Y23 GND@169 (power), Y24 VCC@172 (power), Y25 GND@170 (power), Y26 VCC@173 (power), Y27 GND@171 (power), Y28 VCC@212 (power), Y29 GND@172 (power), Y30 IOY30, Y31 IOY31, Y32 GND@173 (power), Y33 IOY33, Y34 IOY34, Y35 GND@174 (power), Y36 IOY36, Y37 VCC@37 (power), Y38 GND@175 (power), Y39 NC40, Y40 NC39, Y41 GND@176 (power), Y42 NC44

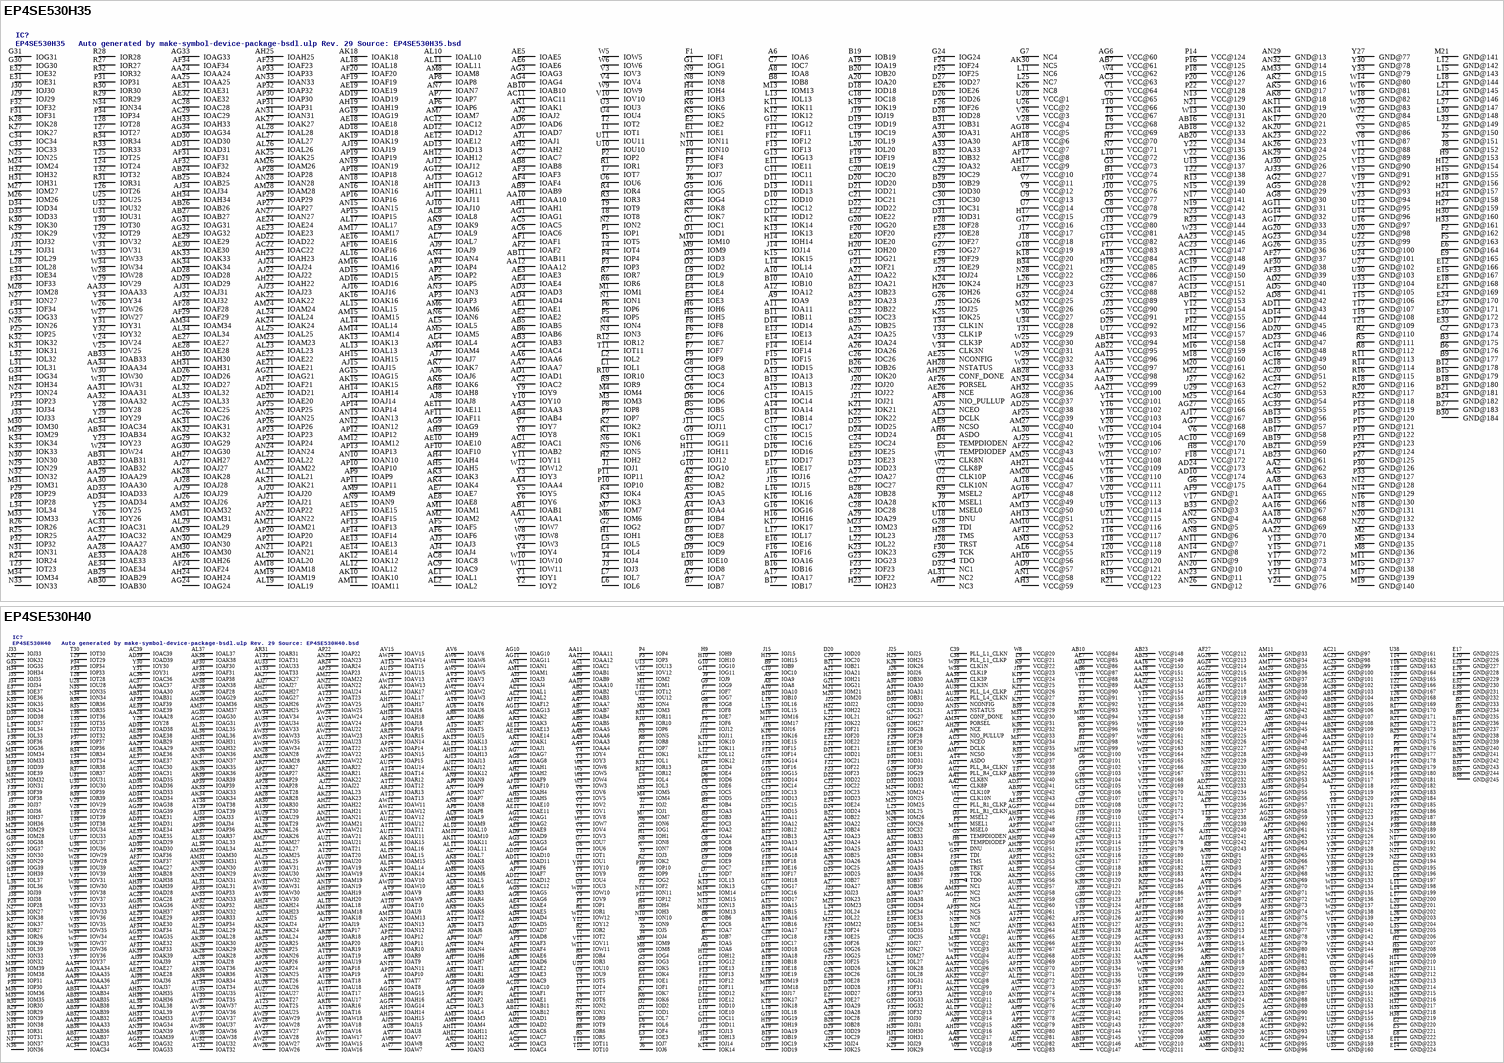
[diagram p4: symbols EP4SE530H35 to EP4SE530H40]

## EP4SE530H35
designator IC?, comment EP4SE530H35   Auto generated by make-symbol-device-package-bsdl.ulp Rev. 29 Source: EP4SE530H35.bsd
MPN: EP4SE530H35C3N; OC_FARNELL: unknown; OC_NEWARK: 52R1723
footprint FBGA1152
pins: A2 IOA2, A3 IOA3, A4 IOA4, A5 IOA5, A6 IOA6, A7 IOA7, A8 IOA8, A9 IOA9, A10 IOA10, A11 IOA11, A12 IOA12, A13 IOA13, A14 IOA14, A15 IOA15, A16 IOA16, A17 IOA17, A18 VCC@84 (power), A19 IOA19, A20 IOA20, A21 IOA21, A22 IOA22, A23 IOA23, A24 IOA24, A25 IOA25, A26 IOA26, A27 IOA27, A28 IOA28, A29 IOA29, A30 IOA30, A31 IOA31, A32 IOA32, A33 IOA33, AA1 IOAA1, AA2 GND@62 (power), AA3 IOAA3, AA4 IOAA4, AA5 GND@63 (power), AA6 IOAA6, AA7 IOAA7, AA8 GND@64 (power), AA10 IOAA10, AA11 GND@65 (power), AA12 IOAA12, AA13 VCC@96 (power), AA14 GND@66 (power), AA15 VCC@97 (power), AA16 GND@67 (power), AA17 VCC@98 (power), AA18 GND@68 (power), AA19 VCC@99 (power), AA20 GND@69 (power), AA21 VCC@100 (power), AA22 GND@70 (power), AA23 VCC@146 (power), AA24 IOAA24, AA25 IOAA25, AA27 IOAA27, AA28 IOAA28, AA29 IOAA29, AA30 IOAA30, AA31 IOAA31, AA32 IOAA32, AA33 IOAA33, AA34 IOAA34, AB1 IOAB1, AB2 IOAB2, AB3 IOAB3, AB4 IOAB4, AB5 IOAB5, AB6 IOAB6, AB7 VCC@61 (power), AB8 IOAB8, AB9 IOAB9, AB10 IOAB10, AB11 IOAB11, AB12 VCC@153 (power), AB13 GND@56 (power), AB14 VCC@94 (power), AB15 GND@57 (power), AB16 VCC@132 (power), AB17 GND@58 (power), AB18 VCC@133 (power), AB19 GND@59 (power), AB20 VCC@134 (power), AB21 GND@60 (power), AB22 VCC@95 (power), AB23 GND@61 (power), AB24 IOAB24, AB25 IOAB25, AB26 IOAB26, AB27 IOAB27, AB28 VCC@34 (power), AB29 IOAB29, AB30 IOAB30, AB31 IOAB31, AB32 IOAB32, AB33 IOAB33, AB34 IOAB34, AC1 IOAC1, AC2 IOAC2, AC3 VCC@63 (power), AC4 IOAC4, AC5 IOAC5, AC6 IOAC6, AC7 IOAC7, AC8 IOAC8, AC9 IOAC9, AC10 VCC@170 (power), AC11 IOAC11, AC12 IOAC12, AC13 VCC@152 (power), AC14 GND@48 (power), AC15 VCC@151 (power), AC16 GND@49 (power), AC17 VCC@150 (power), AC18 GND@50 (power), AC19 VCC@149 (power), AC20 GND@51 (power), AC21 VCC@148 (power), AC22 IOAC22, AC23 VCC@147 (power), AC24 GND@52 (power), AC25 IOAC25, AC26 IOAC26, AC27 GND@53 (power), AC28 IOAC28, AC29 IOAC29, AC30 GND@54 (power), AC31 IOAC31, AC32 IOAC32, AC33 GND@55 (power), AC34 IOAC34, AD1 IOAD1, AD2 GND@40 (power), AD3 IOAD3, AD4 IOAD4, AD5 GND@41 (power), AD6 IOAD6, AD7 IOAD7, AD8 GND@42 (power), AD9 VCC@57 (power), AD10 VCC@174 (power), AD11 GND@43 (power), AD12 IOAD12, AD13 IOAD13, AD14 GND@44 (power), AD15 IOAD15, AD16 IOAD16, AD17 GND@45 (power), AD18 IOAD18, AD19 IOAD19, AD20 GND@46 (power), AD21 IOAD21, AD22 IOAD22, AD23 GND@47 (power), AD24 VCC@173 (power), AD25 VCC@38 (power), AD26 IOAD26, AD27 IOAD27, AD28 IOAD28, AD29 IOAD29, AD30 IOAD30, AD31 IOAD31, AD32 VCC@31 (power), AD33 IOAD33, AD34 IOAD34, AE1 IOAE1, AE2 IOAE2, AE3 IOAE3, AE4 IOAE4, AE5 IOAE5, AE6 IOAE6, AE7 IOAE7, AE8 IOAE8, AE9 NCSO, AE10 IOAE10, AE11 IOAE11, AE12 IOAE12, AE13 IOAE13, AE14 IOAE14, AE15 IOAE15, AE16 IOAE16, AE17 VCC@10 (power), AE18 IOAE18, AE19 IOAE19, AE20 IOAE20, AE21 IOAE21, AE22 IOAE22, AE23 IOAE23, AE24 IOAE24, AE25 NCONFIG, AE26 NCE, AE27 IOAE27, AE28 IOAE28, AE29 IOAE29, AE30 IOAE30, AE31 IOAE31, AE32 IOAE32, AE33 IOAE33, AE34 IOAE34, AF1 IOAF1, AF2 IOAF2, AF3 IOAF3, AF4 IOAF4, AF5 IOAF5, AF6 IOAF6, AF8 NIO_PULLUP, AF9 GND@1 (power), AF10 IOAF10, AF11 IOAF11, AF12 VCC@53 (power), AF13 IOAF13, AF14 IOAF14, AF15 IOAF15, AF16 IOAF16, AF17 VCC@8 (power), AF18 VCC@7 (power), AF19 IOAF19, AF20 IOAF20, AF21 IOAF21, AF22 VCC@43 (power), AF23 IOAF23, AF24 IOAF24, AF25 VCC@39 (power), AF26 PORSEL, AF27 GND@37 (power), AF28 IOAF28, AF29 IOAF29, AF30 GND@38 (power), AF31 IOAF31, AF32 IOAF32, AF33 GND@39 (power), AF34 IOAF34, AG1 IOAG1, AG2 GND@28 (power), AG3 IOAG3, AG4 IOAG4, AG5 GND@29 (power), AG6 VCC@60 (power), AG7 VCC@168 (power), AG8 GND@30 (power), AG9 IOAG9, AG11 GND@31 (power), AG12 IOAG12, AG14 GND@32 (power), AG15 IOAG15, AG16 VCC@48 (power), AG17 GND@33 (power), AG18 VCC@5 (power), AG19 IOAG19, AG20 GND@34 (power), AG21 IOAG21, AG23 GND@35 (power), AG24 IOAG24, AG26 GND@36 (power), AG27 VCC@166 (power), AG28 VCC@37 (power), AG29 IOAG29, AG30 IOAG30, AG31 IOAG31, AG32 IOAG32, AG33 IOAG33, AG34 IOAG34, AH1 IOAH1, AH2 IOAH2, AH3 VCC@59 (power), AH4 IOAH4, AH5 IOAH5, AH6 ASDO, AH7 NC3, AH8 IOAH8, AH9 IOAH9, AH10 VCC@56 (power), AH11 IOAH11, AH12 IOAH12, AH13 VCC@51 (power), AH14 IOAH14, AH15 IOAH15, AH17 VCC@9 (power), AH18 VCC@6 (power), AH19 IOAH19, AH21 VCC@45 (power), AH22 IOAH22, AH23 IOAH23, AH24 IOAH24, AH25 IOAH25, AH26 IOAH26, AH27 IOAH27, AH28 NSTATUS, AH29 CONF_DONE, AH30 IOAH30, AH31 IOAH31, AH32 VCC@36 (power), AH33 IOAH33, AH34 IOAH34, AJ1 IOAJ1, AJ2 IOAJ2, AJ3 IOAJ3, AJ4 IOAJ4, AJ5 NCEO, AJ6 IOAJ6, AJ7 IOAJ7, AJ8 IOAJ8, AJ9 IOAJ9, AJ10 IOAJ10, AJ11 IOAJ11, AJ12 IOAJ12, AJ13 IOAJ13, AJ14 IOAJ14, AJ15 IOAJ15, AJ16 IOAJ16, AJ17 VCC@167 (power), AJ18 VCC@47 (power), AJ19 IOAJ19, AJ20 IOAJ20, AJ21 IOAJ21, AJ22 IOAJ22, AJ23 IOAJ23, AJ24 IOAJ24, AJ25 VCC@42 (power), AJ26 IOAJ26, AJ27 IOAJ27, AJ28 IOAJ28, AJ29 IOAJ29, AJ30 GND@26 (power), AJ31 IOAJ31, AJ32 IOAJ32, AJ33 GND@27 (power), AJ34 IOAJ34, AK1 IOAK1, AK2 GND@16 (power), AK3 IOAK3, AK4 IOAK4, AK5 GND@17 (power), AK6 IOAK6, AK7 IOAK7, AK8 GND@18 (power), AK9 IOAK9, AK10 IOAK10, AK11 GND@19 (power), AK12 IOAK12, AK13 IOAK13, AK14 GND@20 (power), AK15 IOAK15, AK16 IOAK16, AK17 GND@21 (power), AK18 IOAK18, AK19 IOAK19, AK20 GND@22 (power), AK21 IOAK21, AK22 IOAK22, AK23 GND@23 (power), AK24 IOAK24, AK25 IOAK25, AK26 GND@24 (power), AK27 IOAK27, AK28 IOAK28, AK29 GND@25 (power), AK30 NC5, AK31 IOAK31, AK32 IOAK32, AK33 IOAK33, AK34 IOAK34, AL1 IOAL1, AL2 IOAL2, AL3 DCLK, AL4 IOAL4, AL5 IOAL5, AL6 VCC@55 (power), AL7 IOAL7, AL8 IOAL8, AL9 IOAL9, AL10 IOAL10, AL11 IOAL11, AL12 IOAL12, AL13 IOAL13, AL14 IOAL14, AL15 IOAL15, AL16 IOAL16, AL17 IOAL17, AL18 IOAL18, AL19 IOAL19, AL20 IOAL20, AL21 IOAL21, AL22 IOAL22, AL23 IOAL23, AL24 IOAL24, AL25 IOAL25, AL26 IOAL26, AL27 IOAL27, AL28 IOAL28, AL29 IOAL29, AL30 VCC@41 (power), AL31 NC2, AL32 IOAL32, AL33 IOAL33, AL34 IOAL34, AM1 IOAM1, AM2 IOAM2, AM3 VCC@54 (power), AM4 IOAM4, AM5 IOAM5, AM6 IOAM6, AM7 IOAM7, AM8 IOAM8, AM9 IOAM9, AM10 VCC@52 (power), AM11 IOAM11, AM12 IOAM12, AM13 VCC@50 (power), AM14 IOAM14, AM15 IOAM15, AM16 IOAM16, AM17 IOAM17, AM18 IOAM18, AM19 IOAM19, AM20 VCC@46 (power), AM21 IOAM21, AM22 IOAM22, AM23 IOAM23, AM24 IOAM24, AM25 VCC@44 (power), AM26 IOAM26, AM27 VCC@40 (power), AM28 IOAM28, AM29 IOAM29, AM30 IOAM30, AM31 IOAM31, AM32 IOAM32, AM33 GND@15 (power), AM34 IOAM34, AN1 VCC@58 (power), AN2 GND@4 (power), AN3 IOAN3, AN4 IOAN4, AN5 GND@5 (power), AN6 IOAN6, AN7 IOAN7, AN8 GND@6 (power), AN9 IOAN9, AN10 IOAN10, AN11 GND@7 (power), AN12 IOAN12, AN13 IOAN13, AN14 GND@8 (power), AN15 IOAN15, AN16 IOAN16, AN17 GND@9 (power), AN18 IOAN18, AN19 IOAN19, AN20 GND@10 (power), AN21 IOAN21, AN22 IOAN22, AN23 GND@11 (power), AN24 IOAN24, AN25 IOAN25, AN26 GND@12 (power), AN27 IOAN27, AN28 IOAN28, AN29 GND@13 (power), AN30 IOAN30, AN31 IOAN31, AN32 GND@14 (power), AN33 IOAN33, AN34 VCC@35 (power), AP2 IOAP2, AP3 IOAP3, AP4 IOAP4, AP5 IOAP5, AP6 IOAP6, AP7 IOAP7, AP8 IOAP8, AP9 IOAP9, AP10 IOAP10, AP11 IOAP11, AP12 IOAP12, AP13 IOAP13, AP14 IOAP14, AP15 IOAP15, AP16 IOAP16, AP17 VCC@49 (power), AP18 IOAP18, AP19 IOAP19, AP20 IOAP20, AP21 IOAP21, AP22 IOAP22, AP23 IOAP23, AP24 IOAP24, AP25 IOAP25, AP26 IOAP26, AP27 IOAP27, AP28 IOAP28, AP29 IOAP29, AP30 IOAP30, AP31 IOAP31, AP32 IOAP32, AP33 IOAP33, B1 VCC@74 (power), B2 IOB2, B3 GND@175 (power), B4 IOB4, B5 IOB5, B6 GND@176 (power), B7 IOB7, B8 IOB8, B9 GND@177 (power), B10 IOB10, B11 IOB11, B12 GND@178 (power), B13 IOB13, B14 IOB14, B15 GND@179 (power), B16 IOB16, B17 IOB17, B18 GND@180 (power), B19 IOB19, B20 IOB20, B21 GND@181 (power), B22 IOB22, B23 IOB23, B24 GND@182 (power), B25 IOB25, B26 IOB26, B27 GND@183 (power), B28 IOB28, B29 IOB29, B30 GND@184 (power), B31 IOB31, B32 IOB32, B33 GND@3 (power), B34 VCC@21 (power), C1 IOC1, C2 GND@174 (power), C3 IOC3, C4 IOC4, C5 IOC5, C6 IOC6, C7 IOC7, C8 VCC@78 (power), C9 IOC9, C10 VCC@79 (power), C11 IOC11, C12 IOC12, C13 VCC@81 (power), C14 IOC14, C15 IOC15, C16 IOC16, C17 IOC17, C18 IOC18, C19 IOC19, C20 IOC20, C21 IOC21, C22 VCC@86 (power), C23 IOC23, C24 IOC24, C25 VCC@87 (power), C26 IOC26, C27 IOC27, C28 IOC28, C29 IOC29, C30 IOC30, C31 IOC31, C32 VCC@89 (power), C33 IOC33, C34 IOC34, D1 IOD1, D2 IOD2, D3 IOD3, D4 TEMPDIODEN, D5 VCC@77 (power), D6 IOD6, D7 IOD7, D8 IOD8, D9 IOD9, D10 IOD10, D11 IOD11, D12 IOD12, D13 IOD13, D14 IOD14, D15 IOD15, D16 IOD16, D17 IOD17, D18 IOD18, D19 IOD19, D20 IOD20, D21 IOD21, D22 IOD22, D23 IOD23, D24 IOD24, D25 IOD25, D26 IOD26, D27 IOD27, D28 IOD28, D29 VCC@92 (power), D30 IOD30, D31 IOD31, D32 NC1, D33 IOD33, D34 IOD34, E1 IOE1, E2 IOE2, E3 IOE3, E4 IOE4, E5 TEMPDIODEP, E6 GND@164 (power), E7 IOE7, E8 IOE8, E9 GND@165 (power), E10 IOE10, E11 IOE11, E12 GND@166 (power), E13 IOE13, E14 IOE14, E15 GND@167 (power), E16 IOE16, E17 IOE17, E18 GND@168 (power), E19 IOE19, E20 IOE20, E21 GND@169 (power), E22 IOE22, E23 IOE23, E24 GND@170 (power), E25 IOE25, E26 IOE26, E27 GND@171 (power), E28 IOE28, E29 IOE29, E30 GND@172 (power), E31 IOE31, E32 IOE32, E33 GND@173 (power), E34 IOE34, F1 IOF1, F2 GND@162 (power), F3 IOF3, F4 IOF4, F5 GND@163 (power), F6 IOF6, F7 IOF7, F8 IOF8, F9 IOF9, F10 VCC@75 (power), F11 IOF11, F12 IOF12, F13 IOF13, F14 IOF14, F15 IOF15, F16 IOF16, F17 VCC@83 (power), F18 VCC@172 (power), F19 IOF19, F20 IOF20, F21 IOF21, F22 IOF22, F23 IOF23, F24 IOF24, F25 IOF25, F26 IOF26, F27 IOF27, F28 IOF28, F29 IOF29, F30 TCK, F31 IOF31, F32 IOF32, F33 IOF33, F34 IOF34, G1 IOG1, G2 IOG2, G3 VCC@73 (power), G4 IOG4, G5 IOG5, G6 VCC@175 (power), G7 NC4, G8 IOG8, G9 IOG9, G10 IOG10, G11 IOG11, G12 IOG12, G13 IOG13, G14 VCC@82 (power), G16 IOG16, G17 VCC@16 (power), G18 VCC@19 (power), G20 IOG20, G21 IOG21, G22 VCC@88 (power), G23 IOG23, G24 IOG24, G25 VCC@91 (power), G26 IOG26, G27 IOG27, G28 TDI, G29 TDO (out), G30 IOG30, G31 IOG31, G32 VCC@25 (power), G33 IOG33, G34 IOG34, H1 IOH1, H2 IOH2, H3 IOH3, H4 IOH4, H5 IOH5, H6 IOH6, H7 VCC@70 (power), H8 VCC@171 (power), H9 GND@153 (power), H11 IOH11, H12 GND@154 (power), H14 IOH14, H15 GND@155 (power), H16 IOH16, H17 VCC@15 (power), H18 GND@156 (power), H19 VCC@85 (power), H20 IOH20, H21 GND@157 (power), H23 IOH23, H24 GND@158 (power), H26 IOH26, H27 GND@159 (power), H28 TMS, H29 VCC@24 (power), H30 GND@160 (power), H31 IOH31, H32 IOH32, H33 GND@161 (power), H34 IOH34, J1 IOJ1, J2 GND@150 (power), J3 IOJ3, J4 IOJ4, J5 GND@151 (power), J6 IOJ6, J7 IOJ7, J8 GND@152 (power), J9 MSEL1, J10 VCC@76 (power), J11 IOJ11, J12 IOJ12, J13 VCC@80 (power), J14 IOJ14, J15 IOJ15, J16 IOJ16, J17 VCC@17 (power), J18 VCC@18 (power), J19 IOJ19, J20 IOJ20, J21 IOJ21, J22 IOJ22, J23 VCC@90 (power), J24 IOJ24, J25 IOJ25, J27 VCC@163 (power), J28 TRST, J29 IOJ29, J30 IOJ30, J31 IOJ31, J32 IOJ32, J33 IOJ33, J34 IOJ34, K1 IOK1, K2 IOK2, K3 IOK3, K4 IOK4, K5 IOK5, K6 IOK6, K7 IOK7, K8 IOK8, K9 MSEL2, K10 MSEL0, K11 IOK11, K12 IOK12, K13 IOK13, K14 IOK14, K15 IOK15, K16 IOK16, K17 IOK17, K18 VCC@20 (power), K19 IOK19, K20 IOK20, K21 IOK21, K22 IOK22, K23 IOK23, K24 IOK24, K25 IOK25, K26 NC8, K27 IOK27, K28 IOK28, K29 IOK29, K30 IOK30, K31 IOK31, K32 IOK32, K33 IOK33, K34 IOK34, L1 IOL1, L2 IOL2, L3 VCC@69 (power), L4 IOL4, L5 IOL5, L6 IOL6, L7 IOL7, L8 IOL8, L9 IOL9, L10 VCC@72 (power), L11 NC6, L12 GND@142 (power), L13 IOL13, L14 IOL14, L15 GND@143 (power), L16 IOL16, L17 IOL17, L18 GND@144 (power), L19 IOL19, L20 IOL20, L21 GND@145 (power), L22 IOL22, L23 IOL23, L24 GND@146 (power), L25 NC7, L26 VCC@23 (power), L27 GND@147 (power), L28 IOL28, L29 IOL29, L30 GND@148 (power), L31 IOL31, L32 IOL32, L33 GND@149 (power), L34 IOL34, M1 IOM1, M2 GND@134 (power), M3 IOM3, M4 IOM4, M5 GND@135 (power), M6 IOM6, M7 IOM7, M8 GND@136 (power), M9 IOM9, M10 IOM10, M11 GND@137 (power), M12 VCC@157 (power), M13 IOM13, M14 VCC@158 (power), M15 GND@138 (power), M16 VCC@159 (power), M17 GND@139 (power), M18 VCC@160 (power), M19 GND@140 (power), M20 VCC@161 (power), M21 GND@141 (power), M22 VCC@162 (power), M23 IOM23, M24 IOM24, M25 VCC@165 (power), M26 IOM26, M27 IOM27, M28 IOM28, M29 IOM29, M30 IOM30, M31 IOM31, M32 VCC@26 (power), M33 IOM33, M34 IOM34, N1 ION1, N2 ION2, N3 ION3, N4 ION4, N5 ION5, N6 ION6, N7 VCC@71 (power), N8 ION8, N9 ION9, N10 ION10, N11 ION11, N12 GND@128 (power), N13 VCC@129 (power), N14 GND@129 (power), N15 VCC@140 (power), N16 GND@130 (power), N17 VCC@141 (power), N18 GND@131 (power), N19 VCC@142 (power), N20 GND@132 (power), N21 VCC@130 (power), N22 GND@133 (power), N23 VCC@143 (power), N24 ION24, N25 ION25, N26 ION26, N27 ION27, N28 VCC@22 (power), N29 ION29, N30 ION30, N31 ION31, N32 ION32, N33 ION33, N34 ION34, P1 IOP1, P2 IOP2, P3 IOP3, P4 IOP4, P5 IOP5, P6 IOP6, P7 IOP7, P8 IOP8, P10 IOP10, P11 IOP11, P12 VCC@156 (power), P13 GND@119 (power), P14 VCC@124 (power), P15 GND@120 (power), P16 VCC@125 (power), P17 GND@121 (power), P18 VCC@126 (power), P19 GND@122 (power), P20 VCC@127 (power), P21 GND@123 (power), P22 VCC@128 (power), P23 IOP23, P24 GND@124 (power), P25 IOP25, P27 GND@125 (power), P28 IOP28, P29 IOP29, P30 GND@126 (power), P31 IOP31, P32 IOP32, P33 GND@127 (power), P34 IOP34, R1 IOR1, R2 GND@110 (power), R3 IOR3, R4 IOR4, R5 GND@111 (power), R6 IOR6, R7 IOR7, R8 GND@112 (power), R9 IOR9, R10 IOR10, R11 GND@113 (power), R12 IOR12, R13 VCC@139 (power), R14 GND@114 (power), R15 VCC@120 (power), R16 GND@115 (power), R17 VCC@121 (power), R18 GND@116 (power), R19 VCC@122 (power), R20 GND@117 (power), R21 VCC@123 (power), R22 GND@118 (power), R23 VCC@144 (power), R24 IOR24, R25 IOR25, R26 IOR26, R27 IOR27, R28 IOR28, R29 IOR29, R30 IOR30, R31 IOR31, R32 IOR32, R33 IOR33, R34 IOR34, T1 IOT1, T2 IOT2, T3 VCC@67 (power), T4 IOT4, T5 IOT5, T6 VCC@68 (power), T7 IOT7, T8 IOT8, T9 IOT9, T10 VCC@66 (power), T11 IOT11, T12 VCC@155 (power), T13 GND@105 (power), T14 VCC@116 (power), T15 GND@106 (power), T16 VCC@117 (power), T17 GND@107 (power), T18 VCC@118 (power), T19 GND@108 (power), T20 VCC@119 (power), T21 GND@109 (power), T22 VCC@138 (power), T23 IOT23, T24 IOT24, T25 IOT25, T26 IOT26, T27 IOT27, T28 IOT28, T29 IOT29, T30 IOT30, T31 VCC@29 (power), T32 IOT32, T33 CLK1P, T34 CLK1N, U1 CLK10N, U2 CLK10P, U3 IOU3, U4 IOU4, U5 VCC@65 (power), U6 IOU6, U7 VCC@14 (power), U9 VCC@13 (power), U10 IOU10, U11 IOU11, U12 GND@95 (power), U13 VCC@137 (power), U14 GND@96 (power), U15 VCC@113 (power), U16 GND@97 (power), U17 VCC@93 (power), U18 DNU, U19 VCC@114 (power), U20 GND@98 (power), U21 VCC@115 (power), U22 GND@99 (power), U23 GND@100 (power), U24 GND@101 (power), U25 IOU25, U26 VCC@2 (power), U27 GND@102 (power), U28 VCC@1 (power), U29 VCC@164 (power), U30 GND@103 (power), U31 IOU31, U32 IOU32, U33 GND@104 (power), U34 VCC@28 (power), V1 VCC@64 (power), V2 GND@85 (power), V3 IOV3, V4 IOV4, V5 GND@86 (power), V6 VCC@169 (power), V7 VCC@11 (power), V8 GND@87 (power), V9 VCC@12 (power), V10 IOV10, V11 GND@88 (power), V12 GND@89 (power), V13 GND@90 (power), V14 VCC@109 (power), V15 GND@91 (power), V16 VCC@110 (power), V17 GND@2 (power), V18 VCC@111 (power), V19 GND@92 (power), V20 VCC@112 (power), V21 GND@93 (power), V22 VCC@136 (power), V23 GND@94 (power), V24 IOV24, V25 IOV25, V26 VCC@3 (power), V28 VCC@4 (power), V29 IOV29, V30 VCC@27 (power), V31 IOV31, V32 IOV32, V33 CLK3P, V34 CLK3N, W1 CLK8N, W2 CLK8P, W3 IOW3, W4 VCC@62 (power), W5 IOW5, W6 IOW6, W7 IOW7, W8 IOW8, W9 IOW9, W10 IOW10, W11 IOW11, W12 IOW12, W13 VCC@131 (power), W14 GND@80 (power), W15 VCC@105 (power), W16 GND@81 (power), W17 VCC@106 (power), W18 GND@82 (power), W19 VCC@107 (power), W20 GND@83 (power), W21 VCC@108 (power), W22 GND@84 (power), W23 VCC@145 (power), W24 IOW24, W25 VCC@30 (power), W26 IOW26, W27 IOW27, W28 IOW28, W29 VCC@32 (power), W30 IOW30, W31 IOW31, W32 VCC@33 (power), W33 IOW33, W34 IOW34, Y1 IOY1, Y2 IOY2, Y3 IOY3, Y4 IOY4, Y5 IOY5, Y6 IOY6, Y7 IOY7, Y8 IOY8, Y9 IOY9, Y10 IOY10, Y11 IOY11, Y12 VCC@154 (power), Y13 GND@71 (power), Y14 VCC@101 (power), Y15 GND@72 (power), Y16 VCC@102 (power), Y17 GND@73 (power), Y18 VCC@103 (power), Y19 GND@74 (power), Y20 VCC@104 (power), Y21 GND@75 (power), Y22 VCC@135 (power), Y23 IOY23, Y24 GND@76 (power), Y25 IOY25, Y26 IOY26, Y27 GND@77 (power), Y28 IOY28, Y29 IOY29, Y30 GND@78 (power), Y31 IOY31, Y32 IOY32, Y33 GND@79 (power), Y34 IOY34